# Altium footprint library EC11EBB24C03.PcbLib: 1 footprints
Each footprint in its own frame and in the unit in brackets; x right, y up, seen from the top. Pads: shape width x height; smd on the part's side, far side on the other; paste and mask are expansions set on the pad; w line width, h text height; cw(c..) or ccw(c..) is an arc to the next point about the centre after c.
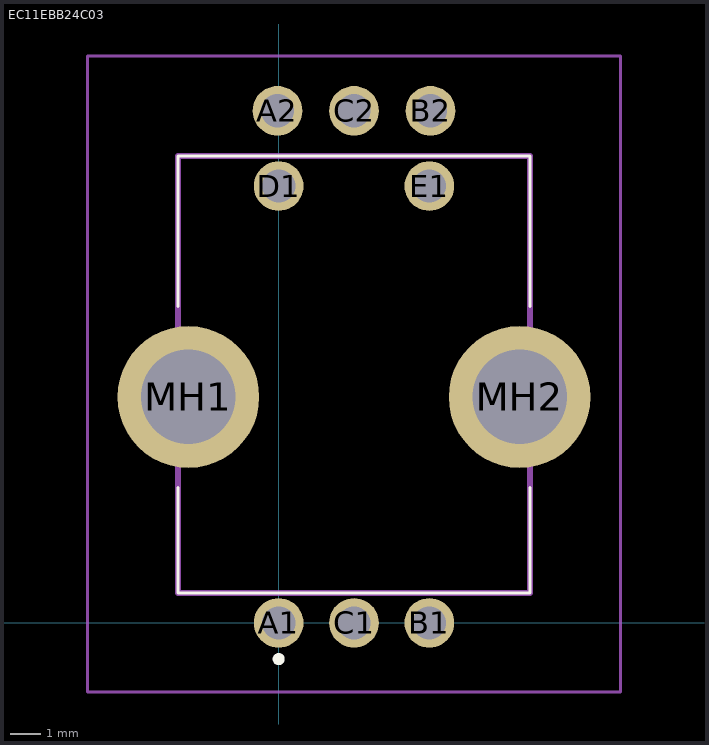
[diagram p0: the footprint, top view; thin cyan lines are the x and y axes]

## EC11EBB24C03 [mm]
pads (10):
  round 1.65 hole 1.1: A1(0,0) A2(-0.04,17) B1(5,0) B2(5.04,17) C1(2.5,0) C2(2.5,17) D1(0,14.5) E1(5,14.5)
  round 4.708 hole 3.139: MH1(-3,7.5) MH2(8,7.5)
Top Overlay:
  lines w0.1: -3.35,4.5 -3.35,1 8.35,1 8.35,4.5 ; -3.35,10.5 -3.35,15.5 8.35,15.5 8.35,10.5
  lines w0.2: -0.1,-1.2 -0.1,-1.2 ; -0.1,-1.2 ccw(c0,-1.2) 0.1,-1.2 ; -0.1,-1.2 cw(c0,-1.2) 0.1,-1.2 ; 0.1,-1.2 0.1,-1.2
Mechanical 15:
  lines w0.2: -3.35,1 8.35,1 8.35,15.5 -3.35,15.5 -3.35,1
Mechanical 20:
  lines w0.1: -6.354,-2.3 11.354,-2.3 11.354,18.825 -6.354,18.825 -6.354,-2.3